# EAGLE library part MICROMATCH-18 (library con-amp-micromatch)
MicroMaTch 18 8-215464-8 / 1-215464-8 Drawing Number C-215464 DDEController.pdf
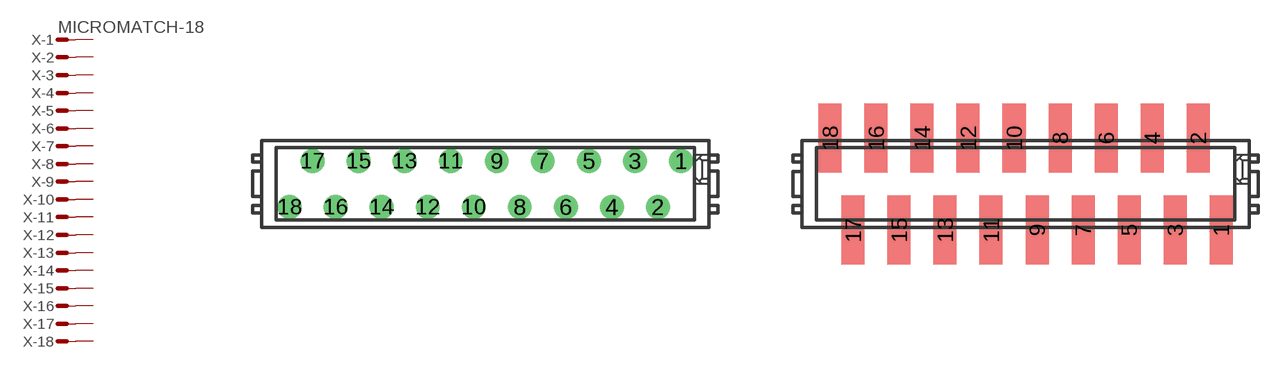
[diagram p1: symbol with the pads of MICROMATCH-18; footprints MICROMATCH-18, MICROMATCH-18-SMD]

Designator prefix X; gates -1=MV -2=M -3=M -4=M -5=M -6=M -7=M -8=M -9=M -10=M -11=M -12=M -13=M -14=M -15=M -16=M -17=M -18=M

## MICROMATCH-18  [MICROMATCH-18]
1  -1:S  pas
2  -2:S  pas
3  -3:S  pas
4  -4:S  pas
5  -5:S  pas
6  -6:S  pas
7  -7:S  pas
8  -8:S  pas
9  -9:S  pas
10  -10:S  pas
11  -11:S  pas
12  -12:S  pas
13  -13:S  pas
14  -14:S  pas
15  -15:S  pas
16  -16:S  pas
17  -17:S  pas
18  -18:S  pas

## MICROMATCH-18SMD  [MICROMATCH-18-SMD]
Pads as for MICROMATCH-18

## Footprint MICROMATCH-18 (pad centres in mm)
MicroMaTch 18 8-215464-8 / 1-215464-8 Drawing Number C-215464 DDEController.pdf
drill 0.813 round: 1 10.795,1.27; 2 9.525,-1.27; 3 8.255,1.27; 4 6.985,-1.27; 5 5.715,1.27; 6 4.445,-1.27; 7 3.175,1.27; 8 1.905,-1.27; 9 0.635,1.27; 10 -0.635,-1.27; 11 -1.905,1.27; 12 -3.175,-1.27; 13 -4.445,1.27; 14 -5.715,-1.27; 15 -6.985,1.27; 16 -8.255,-1.27; 17 -9.525,1.27; 18 -10.795,-1.27

## Footprint MICROMATCH-18-SMD (pad centres in mm)
smd 1.27 x 3.81: 1 10.795,-2.54; 2 9.525,2.54; 3 8.255,-2.54; 4 6.985,2.54; 5 5.715,-2.54; 6 4.445,2.54; 7 3.175,-2.54; 8 1.905,2.54; 9 0.635,-2.54; 10 -0.635,2.54; 11 -1.905,-2.54; 12 -3.175,2.54; 13 -4.445,-2.54; 14 -5.715,2.54; 15 -6.985,-2.54; 16 -8.255,2.54; 17 -9.525,-2.54; 18 -10.795,2.54